# EAGLE library part STM32F401 (library printrbot)
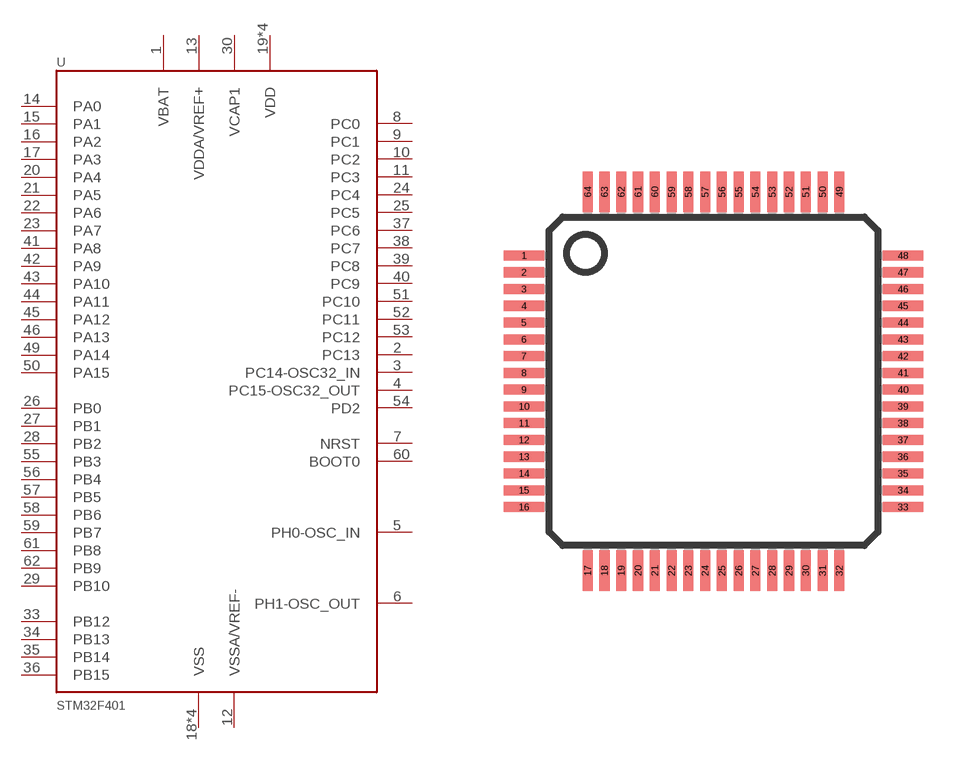
[diagram p10: symbol with the pads of LQFP-ST-64-2; footprint LQFP-ST-64-2]

Designator prefix U

## STM32F401  [LQFP-ST-64-2]
1  VBAT  pwr
2  PC13
3  PC14-OSC32_IN
4  PC15-OSC32_OUT
5  PH0-OSC_IN  in
6  PH1-OSC_OUT  out
7  NRST  in
8  PC0
9  PC1
10  PC2
11  PC3
12  VSSA/VREF-  pwr
13  VDDA/VREF+  pwr
14  PA0
15  PA1
16  PA2
17  PA3
18  VSS  pwr
19  VDD  pwr
20  PA4
21  PA5
22  PA6
23  PA7
24  PC4
25  PC5
26  PB0
27  PB1
28  PB2
29  PB10
30  VCAP1  pwr
31  VSS  pwr
32  VDD  pwr
33  PB12
34  PB13
35  PB14
36  PB15
37  PC6
38  PC7
39  PC8
40  PC9
41  PA8
42  PA9
43  PA10
44  PA11
45  PA12
46  PA13
47  VSS  pwr
48  VDD  pwr
49  PA14
50  PA15
51  PC10
52  PC11
53  PC12
54  PD2
55  PB3
56  PB4
57  PB5
58  PB6
59  PB7
60  BOOT0  in
61  PB8
62  PB9
63  VSS  pwr
64  VDD  pwr

## Footprint LQFP-ST-64-2 (pad centres in mm)
64-Lead Low Profile Quad Flat Package [LQFP] (ST-64-2) COMPLIANT TO JEDEC STANDARDS MS-026-BCD Source: http://www.analog.com/UploadedFiles/Data_Sheets/288945048AD7C7019_20_1_2_4_5_6_7_0.pdf
smd 1.2 x 0.3: 1 -5.65,3.75; 2 -5.65,3.25; 3 -5.65,2.75; 4 -5.65,2.25; 5 -5.65,1.75; 6 -5.65,1.25; 7 -5.65,0.75; 8 -5.65,0.25; 9 -5.65,-0.25; 10 -5.65,-0.75; 11 -5.65,-1.25; 12 -5.65,-1.75; 13 -5.65,-2.25; 14 -5.65,-2.75; 15 -5.65,-3.25; 16 -5.65,-3.75; 33 5.65,-3.75; 34 5.65,-3.25; 35 5.65,-2.75; 36 5.65,-2.25; 37 5.65,-1.75; 38 5.65,-1.25; 39 5.65,-0.75; 40 5.65,-0.25; 41 5.65,0.25; 42 5.65,0.75; 43 5.65,1.25; 44 5.65,1.75; 45 5.65,2.25; 46 5.65,2.75; 47 5.65,3.25; 48 5.65,3.75
smd 0.3 x 1.2: 17 -3.75,-5.65; 18 -3.25,-5.65; 19 -2.75,-5.65; 20 -2.25,-5.65; 21 -1.75,-5.65; 22 -1.25,-5.65; 23 -0.75,-5.65; 24 -0.25,-5.65; 25 0.25,-5.65; 26 0.75,-5.65; 27 1.25,-5.65; 28 1.75,-5.65; 29 2.25,-5.65; 30 2.75,-5.65; 31 3.25,-5.65; 32 3.75,-5.65; 49 3.75,5.65; 50 3.25,5.65; 51 2.75,5.65; 52 2.25,5.65; 53 1.75,5.65; 54 1.25,5.65; 55 0.75,5.65; 56 0.25,5.65; 57 -0.25,5.65; 58 -0.75,5.65; 59 -1.25,5.65; 60 -1.75,5.65; 61 -2.25,5.65; 62 -2.75,5.65; 63 -3.25,5.65; 64 -3.75,5.65